# EAGLE library part DRV8833_POLOLU (library Oded_Hand)
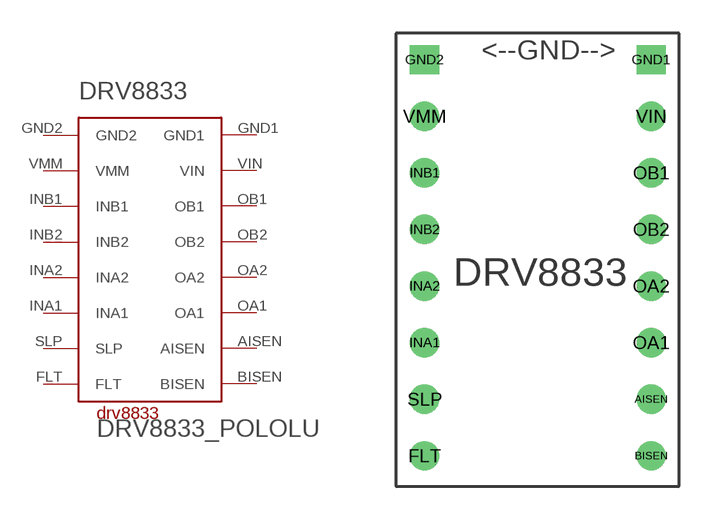
[diagram p1: symbol with the pads of DRV8833_POLOLU; footprint DRV8833_POLOLU]

Designator prefix DRV8833

## DRV8833_POLOLU  [DRV8833_POLOLU]
AISEN  AISEN
BISEN  BISEN
FLT  FLT
GND1  GND1
GND2  GND2
INA1  INA1
INA2  INA2
INB1  INB1
INB2  INB2
OA1  OA1
OA2  OA2
OB1  OB1
OB2  OB2
SLP  SLP
VIN  VIN
VMM  VMM  out

## Footprint DRV8833_POLOLU (pad centres in mm)
drill 0.8 pad 1.321: AISEN 6.35,-7.62; BISEN 6.35,-10.16; FLT -3.81,-10.16; INA1 -3.81,-5.08; INA2 -3.81,-2.54; INB1 -3.81,2.54; INB2 -3.81,0; OA1 6.35,-5.08; OA2 6.35,-2.54; OB1 6.35,2.54; OB2 6.35,0; SLP -3.81,-7.62; VIN 6.35,5.08; VMM -3.81,5.08
drill 0.8 pad 1.321 square: GND1 6.35,7.62; GND2 -3.81,7.62